# Altium footprint library SM3ZS067U410-NUT1-R1200.PcbLib: 1 footprints
Each footprint in its own frame and in the unit in brackets; x right, y up, seen from the top. Pads: shape width x height; smd on the part's side, far side on the other; paste and mask are expansions set on the pad; w line width, h text height; cw(c..) or ccw(c..) is an arc to the next point about the centre after c.
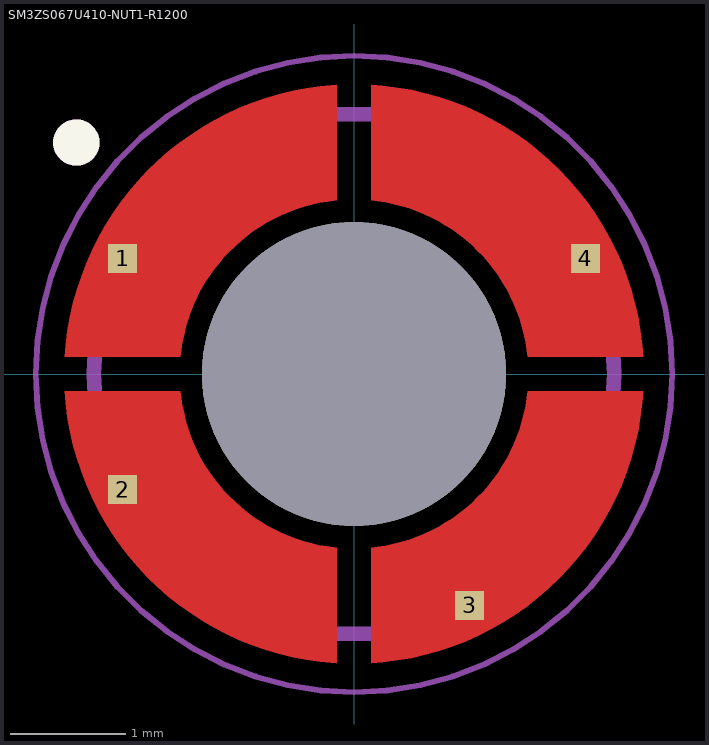
[diagram p0: the footprint, top view; thin cyan lines are the x and y axes]

## SM3ZS067U410-NUT1-R1200 [mm]
pads (5):
  rect 0.25x0.25 smd paste-1 mask+0: 1(-2,1) 2(-2,-1) 3(1,-2) 4(2,1)
  round 2.63 hole 2.63 unplated: ""(0,0)
Top Layer:
  region: 0.25,2.492 0.372,2.476 0.493,2.455 0.612,2.428 0.73,2.395 0.846,2.356 0.961,2.312 1.073,2.262 1.182,2.207 1.289,2.146 1.392,2.081 1.492,2.01 1.589,1.935 1.681,1.855 1.77,1.77 1.855,1.681 1.935,1.589 2.01,1.492 2.081,1.392 2.146,1.289 2.207,1.182 2.262,1.073 2.312,0.961 2.356,0.846 2.395,0.73 2.428,0.612 2.455,0.493 2.476,0.372 2.492,0.25 2.5,0.15 1.5,0.15 1.493,0.206 1.483,0.275 1.468,0.344 1.451,0.411 1.431,0.478 1.407,0.544 1.381,0.609 1.351,0.672 1.319,0.734 1.283,0.794 1.245,0.853 1.205,0.909 1.161,0.964 1.116,1.017 1.067,1.067 1.017,1.116 0.964,1.161 0.909,1.205 0.853,1.245 0.794,1.283 0.734,1.319 0.672,1.351 0.609,1.381 0.544,1.407 0.478,1.431 0.411,1.451 0.344,1.468 0.275,1.483 0.206,1.493 0.15,1.5 0.15,2.5
  region: 2.492,-0.25 2.476,-0.372 2.455,-0.493 2.428,-0.612 2.395,-0.73 2.356,-0.846 2.312,-0.961 2.262,-1.073 2.207,-1.182 2.146,-1.289 2.081,-1.392 2.01,-1.492 1.935,-1.589 1.855,-1.681 1.77,-1.77 1.681,-1.855 1.589,-1.935 1.492,-2.01 1.392,-2.081 1.289,-2.146 1.182,-2.207 1.073,-2.262 0.961,-2.312 0.846,-2.356 0.73,-2.395 0.612,-2.428 0.493,-2.455 0.372,-2.476 0.25,-2.492 0.15,-2.5 0.15,-1.5 0.206,-1.493 0.275,-1.483 0.344,-1.468 0.411,-1.451 0.478,-1.431 0.544,-1.407 0.609,-1.381 0.672,-1.351 0.734,-1.319 0.794,-1.283 0.853,-1.245 0.909,-1.205 0.964,-1.161 1.017,-1.116 1.067,-1.067 1.116,-1.017 1.161,-0.964 1.205,-0.909 1.245,-0.853 1.283,-0.794 1.319,-0.734 1.351,-0.672 1.381,-0.609 1.407,-0.544 1.431,-0.478 1.451,-0.411 1.468,-0.344 1.483,-0.275 1.493,-0.206 1.5,-0.15 2.5,-0.15
  region: -1.494,-0.206 -1.483,-0.274 -1.469,-0.341 -1.452,-0.408 -1.432,-0.474 -1.409,-0.539 -1.383,-0.603 -1.354,-0.666 -1.323,-0.727 -1.288,-0.787 -1.251,-0.845 -1.211,-0.901 -1.169,-0.955 -1.124,-1.008 -1.077,-1.058 -1.027,-1.106 -0.975,-1.152 -0.922,-1.195 -0.866,-1.236 -0.809,-1.274 -0.75,-1.31 -0.689,-1.343 -0.627,-1.373 -0.563,-1.4 -0.499,-1.424 -0.433,-1.445 -0.367,-1.463 -0.299,-1.478 -0.231,-1.49 -0.15,-1.5 -0.15,-2.5 -0.292,-2.487 -0.412,-2.47 -0.531,-2.447 -0.649,-2.418 -0.765,-2.384 -0.879,-2.344 -0.992,-2.299 -1.101,-2.248 -1.209,-2.192 -1.313,-2.131 -1.415,-2.065 -1.513,-1.994 -1.608,-1.919 -1.699,-1.839 -1.786,-1.755 -1.868,-1.666 -1.947,-1.574 -2.021,-1.478 -2.09,-1.379 -2.154,-1.276 -2.213,-1.17 -2.267,-1.062 -2.316,-0.951 -2.359,-0.838 -2.397,-0.723 -2.429,-0.606 -2.456,-0.488 -2.477,-0.369 -2.492,-0.249 -2.5,-0.15 -1.5,-0.15
  region: -0.15,1.5 -0.231,1.49 -0.299,1.478 -0.367,1.463 -0.433,1.445 -0.499,1.424 -0.563,1.4 -0.627,1.373 -0.689,1.343 -0.75,1.31 -0.809,1.274 -0.866,1.236 -0.922,1.195 -0.975,1.152 -1.027,1.106 -1.077,1.058 -1.124,1.008 -1.169,0.955 -1.211,0.901 -1.251,0.845 -1.288,0.787 -1.323,0.727 -1.354,0.666 -1.383,0.603 -1.409,0.539 -1.432,0.474 -1.452,0.408 -1.469,0.341 -1.483,0.274 -1.494,0.206 -1.5,0.15 -2.5,0.15 -2.492,0.249 -2.477,0.369 -2.456,0.488 -2.429,0.606 -2.397,0.723 -2.359,0.838 -2.316,0.951 -2.267,1.062 -2.213,1.17 -2.154,1.276 -2.09,1.379 -2.021,1.478 -1.947,1.574 -1.868,1.666 -1.786,1.755 -1.699,1.839 -1.608,1.919 -1.513,1.994 -1.415,2.065 -1.313,2.131 -1.209,2.192 -1.101,2.248 -0.992,2.299 -0.879,2.344 -0.765,2.384 -0.649,2.418 -0.531,2.447 -0.412,2.47 -0.292,2.487 -0.15,2.5
Top Overlay:
  circle w0.2: c-2.4,2 r0.1
Top Paste:
  drawing of 4 lines, arcs and shapes, not listed
Top Solder:
  drawing of 4 lines, arcs and shapes, not listed
Top 3D Body:
  circle w0.127: c0,0 r2.25
  circle w0.2: c-2.4,2 r0.1
Top Courtyard:
  circle w0.05: c0,0 r2.75
3D body "step_temp.STEP": height 3.16, standoff -0.75, extent -2.25,-2.25 2.25,2.25